# EAGLE library part MFS201N-9-Z (library mfs)
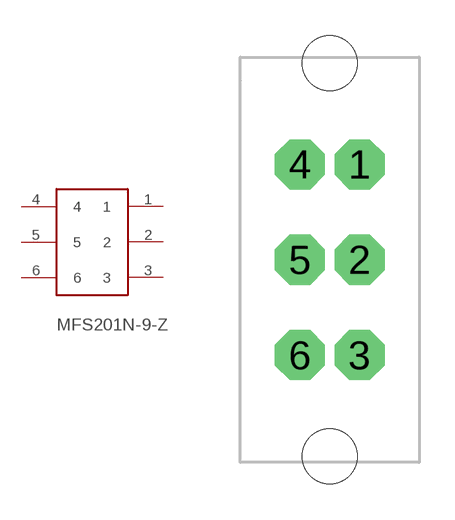
[diagram p0: symbol with the pads of MFS201N-9-Z; footprint MFS201N-9-Z]

Designator prefix -

## MFS201N-9-Z  [MFS201N-9-Z]
1  1
2  2
3  3
4  4
5  5
6  6

## Footprint MFS201N-9-Z (pad centres in mm)
drill 1.4 octagon: 1 1.25,4; 2 1.25,0; 3 1.25,-4; 4 -1.25,4; 5 -1.25,0; 6 -1.25,-4
hole 2.3 at 0,-8.25
hole 2.3 at 0,8.25